# Altium footprint library 532540270.PcbLib: 1 footprints
Each footprint in its own frame and in the unit in brackets; x right, y up, seen from the top. Pads: shape width x height; smd on the part's side, far side on the other; paste and mask are expansions set on the pad; w line width, h text height; cw(c..) or ccw(c..) is an arc to the next point about the centre after c.
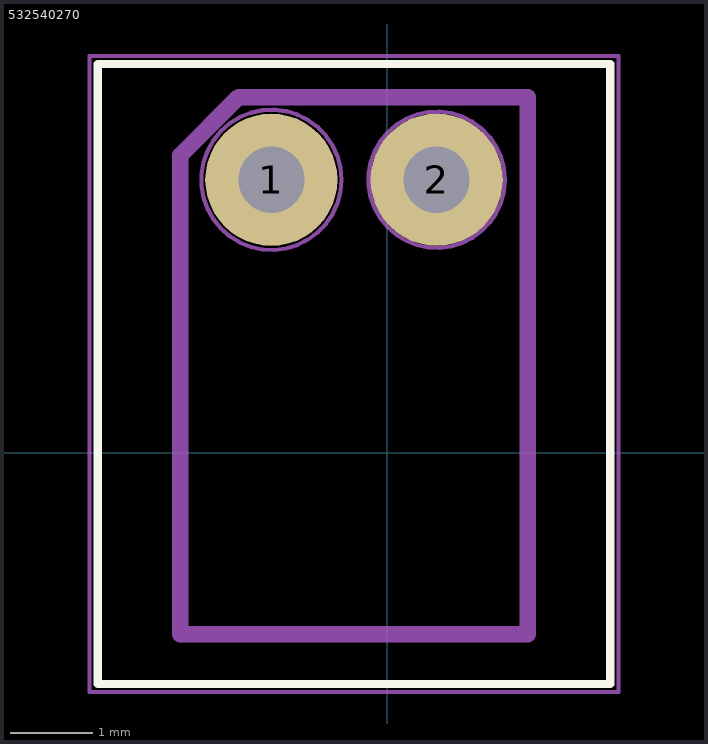
[diagram p0: the footprint, top view; thin cyan lines are the x and y axes]

## 532540270 [mm]
pads (2):
  round 1.6 hole 0.8 mask+0: 1(-1.4,3.3) 2(0.6,3.3)
Top Overlay:
  lines w0.1: -3.5,-2.8 -3.5,-0.6 -3.5,4.7 2.7,4.7 2.7,-2.8 2.475,-2.8 -1.375,-2.8 -3.5,-2.8
Mechanical 3:
  lines w0.2: -2.5,-2.2 -1.5,-2.2 1.7,-2.2 1.7,4.3 -1.796,4.3 -2.5,3.596 -2.5,-2.2
Mechanical 5:
  circle w0.05: c-1.4,3.3 r0.849
  circle w0.05: c0.6,3.3 r0.825
Mechanical 7:
  lines w0.05: -3.6,-2.9 2.8,-2.9 2.8,4.8 -3.6,4.8 -3.6,-2.6 -3.6,-2.9
Mechanical 9:
  text "'.Designator'" at -4.8,0.8 h1
3D body "532540270.stp": height 4.4, standoff -3.3, extent -3.4,-2.7 2.6,4.6
3D body: height 1.04, standoff 0, extent -3.6,-2.9 2.8,4.8